# Altium schematic symbol library ALTIMU-10.SchLib: 1 symbol
Pins are listed as number, name and electrical type; pins without a type are passive.

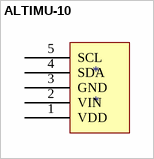
[diagram p0: symbol ALTIMU-10]

## ALTIMU-10
designator *
footprint ALTIMU-10
pins: 1 VDD, 2 VIN, 3 GND, 4 SDA, 5 SCL